# Altium footprint library SOT723.PcbLib: 1 footprints
Each footprint in its own frame and in the unit in brackets; x right, y up, seen from the top. Pads: shape width x height; smd on the part's side, far side on the other; paste and mask are expansions set on the pad; w line width, h text height; cw(c..) or ccw(c..) is an arc to the next point about the centre after c.
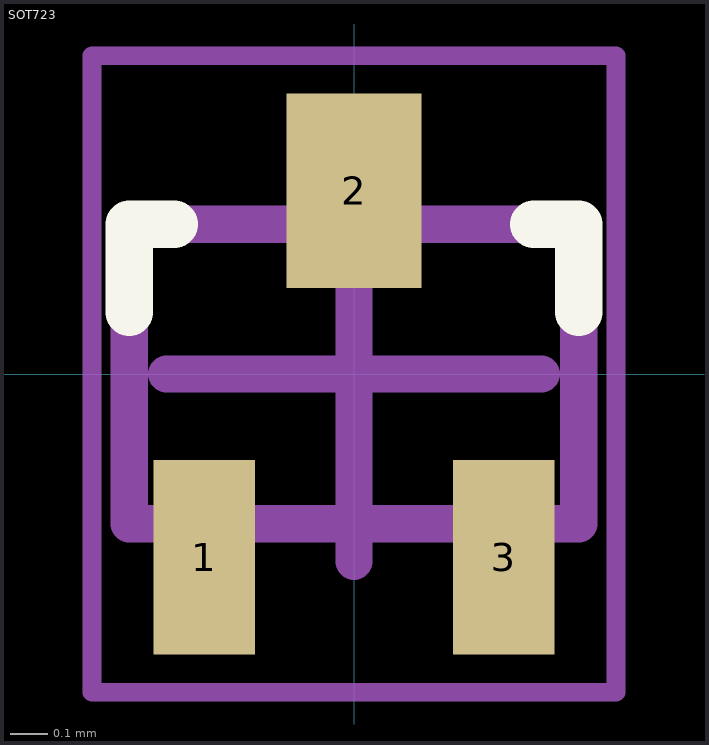
[diagram p0: the footprint, top view; thin cyan lines are the x and y axes]

## SOT723 [mm]
pads (3):
  rect 0.27x0.52 smd: 1(-0.4,-0.49) 3(0.4,-0.49)
  rect 0.36x0.52 smd: 2(0,0.49)
Top Overlay:
  lines w0.127: -0.6,0.165 -0.6,0.4 -0.48,0.4 ; 0.48,0.4 0.6,0.4 0.6,0.165
Mechanical 13:
  lines w0.1: -0.6,-0.4 -0.6,0.4 0.6,0.4 0.6,-0.4 -0.6,-0.4
Mechanical 15:
  lines w0.05: -0.7,-0.85 -0.7,0.85 0.7,0.85 0.7,-0.85 -0.7,-0.85
  lines w0.1: -0.5,0 0.5,0 ; 0,-0.5 0,0.5
3D body "User Library-SOT-723.STEP": height 0.45, standoff -0.01, extent -0.625,-0.61 0.625,0.44